# Altium schematic symbol library PBL - Resistors.SCHLIB: 161 symbols (part 2 of 3)
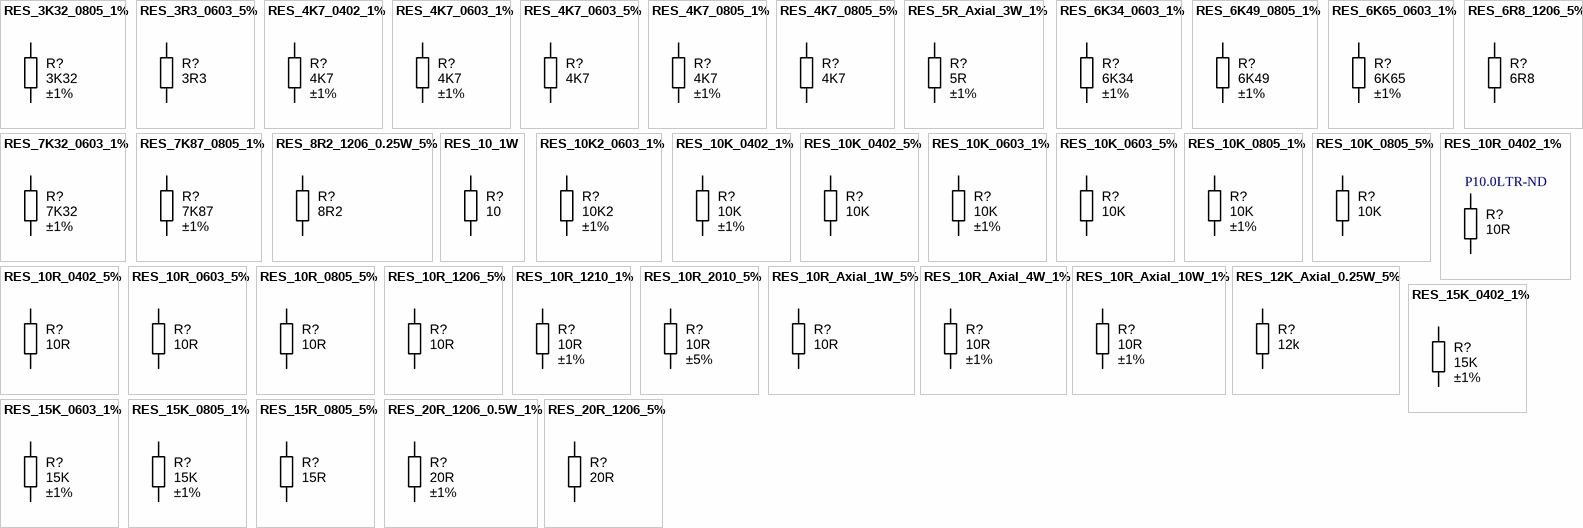
[diagram p5: symbols RES_3K32_0805_1% to RES_20R_1206_5%]

## RES_10R_1210_1%
designator R?, comment value 10R  Tolerance: ±1%  (hidden comment: Thick Film)
Resistor SMD chip 10 Ohm 0.5W 1% 1210; Manufacturer 1: Panasonic - ECG; Manufacturer Part Number 1: ERJ-14NF10R0U; Ratings: 1/2W; SCDType: spec; Package / Case: 1210 (3225 Metric); Supplier 1: Digi-Key; Supplier Part Number 1: P10.0AACT-ND; ComponentLink1URL: http://industrial.panasonic.com/www-cgi/jvcr13pz.cgi?E+PZ+3+AOA0002+ERJ14NF10R0U+7+WW; ComponentLink1Description: http://industrial.panasonic.com/www-cgi/jvcr13pz.cgi?E+PZ+3+AOA0002+ERJ14NF10R0U+7+WW
footprint RESC3225X70N (Chip Resistor, Body 3.2x2.5mm, 1210, IPC Medium Density)
pins: 1, 2

## RES_10R_2010_5%
designator R?, comment value 10R  Tolerance: ±5%  (hidden comment: Thick Film)
Resistor SMD chip 10 Ohm 0.25W 5% 2010; Manufacturer 1: Vishay/Dale; Manufacturer Part Number 1: CRCW120610R0JNEA; Ratings: 1/4W; SCDType: undef; Package / Case: 2010; Supplier 1: Digi-Key; Supplier Part Number 1: 541-10ECT-ND; ComponentLink1URL: http://www.vishay.com/doc?20035; ComponentLink1Description: http://www.vishay.com/doc?20035
footprint RESC5025X70N (Chip Resistor, Body 5.0x2.5mm, 2010, IPC Medium Density)
pins: 1, 2

## RES_10R_Axial_1W_5%
designator R?, comment value 10R  (hidden comment: Metal Film)
Resistor THD 10 Ohm 1W 5% Metal Film; Manufacturer 1: Vishay/BC Components; Manufacturer Part Number 1: PR01000101009JR500; SCDType: spec; Tolerance: ±5%; Package / Case: 2.5x8.0mm DxL; Ratings: 1W; Supplier 1: Digi-Key; Supplier Part Number 1: PPC10W-1CT-ND
footprint AXIAL-0.6 (Axial Device, Thru-Hole; 2 Leads; 0.6 in Pin Spacing)
pins: 1, 2

## RES_10R_Axial_4W_1%
designator R?, comment value 10R  Tolerance: ±1%  (hidden comment: Wirewound)
Resistor THD 10 Ohm 4W 1% Wirewound; Manufacturer Part Number 1: MRA-0510R00FE12; Manufacturer 1: Vishay Dale; Ratings: 4W; 30ppm; Parameter Name: 0.167" Dia x 0.562" L (4.24mm x 14.27mm); SCDType: undef; Package / Case: 4.24x14.27mm DxL; Material: Wirewound; Size / Dimension: 0.187" Dia x 0.622" L (4.75mm x 15.80mm); ComponentLink1URL: http://media.digikey.com/pdf/Data%20Sheets/Vishay%20Dale%20PDFs/MRA_Series.pdf; ComponentLink1Description: MRA Series datasheet; Supplier 1: Digi-Key; Supplier Part Number 1: MRA05-10-ND; Features: Non-Inductive, Non-Magnetic
footprint RESTH_AXIAL_MRA-05 (MRA-05 Axial Resistor Thru-Hole; 2 Leads)
pins: 1, 2

## RES_10R_Axial_10W_1%
designator R?, comment value 10R  Tolerance: ±1%  (hidden comment: Wirewound)
Resistor THD 10 Ohm 10W 1% Wirewound; Manufacturer 1: Vishay/Dale; Manufacturer Part Number 1: RS01010R00FE73; SCDType: spec; Package / Case: 9.53x47.50mm DxL; Ratings: 10W; Supplier 1: Digi-Key; Supplier Part Number 1: RSD-10RCT-ND; Material: Wirewound; Size / Dimension: 0.375" Dia x 1.870" L (9.53mm x 47.50mm); ComponentLink1URL: http://www.vishay.com/doc?30204; ComponentLink1Description: http://www.vishay.com/doc?30204
footprint RESTH_AXIAL_RS010 (Axial Resistor Thru-Hole; 2 Leads)
pins: 1, 2

## RES_12K_Axial_0.25W_5%
designator R?, comment value 12k  (hidden comment: Carbon Film)
Resistor THD Axial 12k Ohm 0.25W 5% Carbon Film; Manufacturer 1: Yageo; Manufacturer Part Number 1: CFR-25JB-12K; Ratings: 1/4W; SCDType: spec; Tolerance: ±5%; Package / Case: Axial; Supplier 1: Digi-Key; Supplier Part Number 1: 12KQBK-ND
footprint RESTH_AXIAL-0.4
pins: 1, 2

## RES_15K_0402_1%
designator R?, comment value 15K  Tolerance: ±1%  (hidden comment: Thick Film)
Resistor SMD chip 15k Ohm 0.063W 1% 0402; Manufacturer 1: Vishay Dale; Manufacturer Part Number 1: CRCW040215K0FKED; Ratings: 1/16 W; SCDType: spec; Package / Case: 0402 (1005 Metric); Manufacturer 2: Yageo; Manufacturer Part Number 2: RC0402FR-0715KL; Supplier 1: Digi-Key; Supplier Part Number 1: 541-15.0KLCT-ND; ComponentLink1URL: http://www.vishay.com/doc?20035; ComponentLink1Description: http://www.vishay.com/doc?20035; Supplier 2: Digi-Key; Supplier Part Number 2: 311-15.0KLRCT-ND; ComponentLink2URL: http://www.yageo.com/documents/recent/PYu-RC0402_51_RoHS_L_6.pdf; ComponentLink2Description: http://www.yageo.com/documents/recent/PYu-RC0402_51_RoHS_L_6.pdf
footprint RESC1005X40N (Chip Resistor, Body 1.0x0.5mm, EIA 0402, IPC Medium Density)
pins: 1, 2

## RES_15K_0603_1%
designator R?, comment value 15K  Tolerance: ±1%  (hidden comment: Thick Film)
Resistor SMD chip 15k Ohm 0.1W 1% 0603; Manufacturer 1: Rohm Semiconductor; Manufacturer Part Number 1: MCR03ERTF1502; Ratings: 1/10 W; SCDType: spec; Package / Case: 0603 (1608 metric); Material: Thick Film; Supplier 1: Digi-Key; Supplier Part Number 1: RHM15.0KCFCT-ND; RoHS 1: RoHS Compliant; ComponentLink1URL: http://rohmfs.rohm.com/en/products/databook/datasheet/passive/resistor/chip_resistor/mcr_g.pdf; ComponentLink1Description: http://rohmfs.rohm.com/en/products/databook/datasheet/passive/resistor/chip_resistor/mcr_g.pdf; Supplier 2: Digi-Key; Supplier Part Number 2: 311-15.0KHRCT-ND; Manufacturer 2: Yageo; Manufacturer Part Number 2: RC0603FR-0715KL; RoHS 2: RoHS Compliant; ComponentLink2URL: http://www.yageo.com/documents/recent/PYu-RC0603_51_RoHS_L_4.pdf; ComponentLink2Description: http://www.yageo.com/documents/recent/PYu-RC0603_51_RoHS_L_4.pdf; Supplier 3: Digi-Key; Supplier Part Number 3: P15.0KHCT-ND; Manufacturer 3: Panasonic Electronic Components; Manufacturer Part Number 3: ERJ-3EKF1502V; RoHS 3: RoHS Compliant; ComponentLink3URL: http://industrial.panasonic.com/www-cgi/jvcr13pz.cgi?E+PZ+3+AOA0002+ERJ3EKF1502V+7+WW; ComponentLink3Description: http://industrial.panasonic.com/www-cgi/jvcr13pz.cgi?E+PZ+3+AOA0002+ERJ3EKF1502V+7+WW; Supplier 4: Digi-Key; Supplier Part Number 4: RMCF0603FT15K0CT-ND; Manufacturer 4: Stackpole Electronics Inc; Manufacturer Part Number 4: RMCF0603FT15K0; RoHS 4: RoHS Compliant; ComponentLink4URL: http://www.seielect.com/Catalog/SEI-RMCF_RMCP.pdf; ComponentLink4Description: http://www.seielect.com/Catalog/SEI-RMCF_RMCP.pdf; Supplier 5: Digi-Key; Supplier Part Number 5: 541-15.0KSCT-ND; Manufacturer 5: Vishay Dale; Manufacturer Part Number 5: CRCW060315K0FKEAHP; RoHS 5: RoHS Compliant; ComponentLink5URL: http://www.vishay.com/docs/20043/crcwhpe3.pdf; ComponentLink5Description: http://www.vishay.com/docs/20043/crcwhpe3.pdf
footprint RESC1608X55N (Chip Resistor, Body 1.6x0.8mm, 0603, IPC Medium Density)
pins: 1, 2

## RES_15K_0805_1%
designator R?, comment value 15K  Tolerance: ±1%  (hidden comment: Thick Film)
Resistor SMD chip 15k Ohm 0.125W 1% 0805; Manufacturer 1: Vishay/Dale; Manufacturer Part Number 1: CRCW080515K0FKEA; Ratings: 1/8W; SCDType: spec; Package / Case: 0805 (2012 metric); Supplier 1: Digi-Key; Supplier Part Number 1: 541-15.0KCCT-ND
footprint RESC2012X70N (Chip Resistor, Body 2.0x1.2mm, 0805, IPC Medium Density)
pins: 1, 2

## RES_15R_0805_5%
designator R?, comment value 15R  (hidden comment: Thick Film)
Resistor SMD chip 15 Ohm 0.125W 5% 0805; Manufacturer 1: Yageo; Manufacturer Part Number 1: RC0805JR-0715RL; Ratings: 1/8W; SCDType: spec; Tolerance: ±5%; Package / Case: 0805 (2012 metric); Supplier 1: Digi-Key; Supplier Part Number 1: 311-15ARCT-ND; RoHS 1: RoHS Compliant; ComponentLink1URL: http://media.digikey.com/pdf/Data%20Sheets/Yageo%20PDFs/RC0805%20Pb%20Free.pdf; ComponentLink1Description: http://media.digikey.com/pdf/Data%20Sheets/Yageo%20PDFs/RC0805%20Pb%20Free.pdf; Supplier 2: Digi-Key; Supplier Part Number 2: P15ACT-ND; Manufacturer 2: Panasonic Electronic Components; Manufacturer Part Number 2: ERJ-6GEYJ150V; RoHS 2: RoHS Compliant; ComponentLink2URL: http://industrial.panasonic.com/www-cgi/jvcr13pz.cgi?E+PZ+3+AOA0001+ERJ6GEYJ150V+7+WW; ComponentLink2Description: http://industrial.panasonic.com/www-cgi/jvcr13pz.cgi?E+PZ+3+AOA0001+ERJ6GEYJ150V+7+WW; Supplier 3: Digi-Key; Supplier Part Number 3: RMCF0805JT15R0CT-ND; Manufacturer 3: Stackpole Electronics Inc; Manufacturer Part Number 3: RMCF0805JT15R0; RoHS 3: RoHS Compliant; ComponentLink3URL: http://www.seielect.com/Catalog/SEI-RMCF_RMCP.pdf; ComponentLink3Description: http://www.seielect.com/Catalog/SEI-RMCF_RMCP.pdf; Supplier 4: Digi-Key; Supplier Part Number 4: 541-15ACT-ND; Manufacturer 4: Vishay Dale; Manufacturer Part Number 4: CRCW080515R0JNEA; RoHS 4: RoHS Compliant; ComponentLink4URL: http://www.vishay.com/doc?20035; ComponentLink4Description: http://www.vishay.com/doc?20035
footprint RESC2012X70N (Chip Resistor, Body 2.0x1.2mm, 0805, IPC Medium Density)
pins: 1, 2

## RES_20R_1206_0.5W_1%
designator R?, comment value 20R  Tolerance: ±1%  (hidden comment: Thick Film)
Resistor SMD chip 20 Ohm 0.5W 1% 1206; Manufacturer 1: Stackpole Electronics Inc; Manufacturer Part Number 1: RNCP1206FTD20R0; Ratings: 1/2W; SCDType: undef; Package / Case: 1206 (3216 Metric); Supplier 1: Digi-Key; Supplier Part Number 1: RNCP1206FTD20R0CT-ND; Features: Anti-Sulfur
footprint RESC3216X70N (Chip Resistor, Body 3.2x1.6mm, 1206, IPC Medium Density)
pins: 1, 2

## RES_20R_1206_5%
designator R?, comment value 20R  (hidden comment: Thick Film)
Resistor SMD chip 20 Ohm 0.25W 5% 1206; Manufacturer 1: Yageo; Manufacturer Part Number 1: RC1206JR-0720RL; Ratings: 1/4W; SCDType: spec; Package / Case: 1206 (3216 metric); Tolerance: ±5%; Supplier 1: Digi-Key; Supplier Part Number 1: 311-20ERCT-ND
footprint RESC3216X70N (Chip Resistor, Body 3.2x1.6mm, 1206, IPC Medium Density)
pins: 1, 2

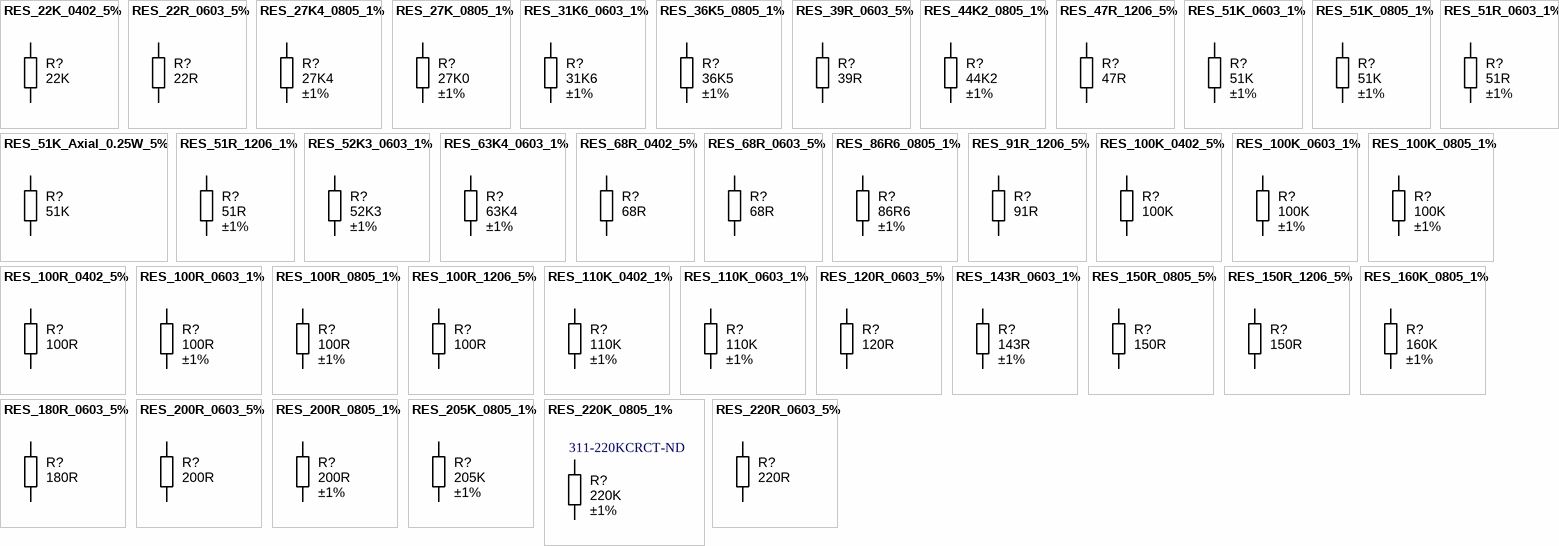
[diagram p2: symbols RES_22K_0402_5% to RES_220R_0603_5%]

## RES_22K_0402_5%
designator R?, comment value 22K  (hidden comment: Thick Film)
Resistor SMD chip 22k Ohm 0.063W 5% 0402; Manufacturer 1: Yageo; Manufacturer Part Number 1: RC0402JR-0722KL; Ratings: 1/16 W; SCDType: spec; Package / Case: 0402 (1005 Metric); Tolerance: ±5%; Supplier 1: Digi-Key; Supplier Part Number 1: 311-22KJRCT-ND; RoHS 1: RoHS Compliant; ComponentLink1URL: http://www.yageo.com/documents/recent/PYu-RC0402_51_RoHS_L_6.pdf; ComponentLink1Description: http://www.yageo.com/documents/recent/PYu-RC0402_51_RoHS_L_6.pdf; Supplier 2: Digi-Key; Supplier Part Number 2: RHM22KCECT-ND; Manufacturer 2: Rohm Semiconductor; Manufacturer Part Number 2: MCR01MRTJ223; RoHS 2: RoHS Compliant; ComponentLink2URL: http://rohmfs.rohm.com/en/products/databook/datasheet/passive/resistor/chip_resistor/mcr_g.pdf; ComponentLink2Description: http://rohmfs.rohm.com/en/products/databook/datasheet/passive/resistor/chip_resistor/mcr_g.pdf; Supplier 3: Digi-Key; Supplier Part Number 3: 541-22KJCT-ND; Manufacturer 3: Vishay Dale; Manufacturer Part Number 3: CRCW040222K0JNED; RoHS 3: RoHS Compliant; ComponentLink3URL: http://www.vishay.com/doc?20035; ComponentLink3Description: http://www.vishay.com/doc?20035; Supplier 4: Digi-Key; Supplier Part Number 4: P22KJCT-ND; Manufacturer 4: Panasonic Electronic Components; Manufacturer Part Number 4: ERJ-2GEJ223X; RoHS 4: RoHS Compliant; ComponentLink4URL: http://industrial.panasonic.com/www-cgi/jvcr13pz.cgi?E+PZ+3+AOA0001+ERJ2GEJ223X+7+WW; ComponentLink4Description: http://industrial.panasonic.com/www-cgi/jvcr13pz.cgi?E+PZ+3+AOA0001+ERJ2GEJ223X+7+WW
footprint RESC1005X40N (Chip Resistor, Body 1.0x0.5mm, EIA 0402, IPC Medium Density)
pins: 1, 2

## RES_22R_0603_5%
designator R?, comment value 22R  (hidden comment: Thick Film)
Resistor SMD chip 22 Ohm 0.1W 5% 0603; Manufacturer 1: Yageo; Manufacturer Part Number 1: RC0603JR-0722RL; Ratings: 1/10W; SCDType: spec; Temperature Coefficient: ±100ppm/°C; Tolerance: ±5%; Package / Case: 0603 (1608 metric); Case: 0603 (1608 metric); Supplier 1: Digi-Key; Supplier Part Number 1: 311-22GRDKR-ND; RoHS 1: RoHS Compliant; ComponentLink1URL: http://www.yageo.com/documents/recent/PYu-RC0603_51_RoHS_L_4.pdf; ComponentLink1Description: http://www.yageo.com/documents/recent/PYu-RC0603_51_RoHS_L_4.pdf; Supplier 2: Digi-Key; Supplier Part Number 2: 1276-5022-6-ND; Manufacturer 2: Samsung Electro-Mechanics America, Inc; Manufacturer Part Number 2: RC1608J220CS; RoHS 2: RoHS Compliant; ComponentLink2URL: http://www.samsungsem.com/servlet/FileDownload?filename=productcatalog/pdf/Chip_Resistor.pdf; ComponentLink2Description: http://www.samsungsem.com/servlet/FileDownload?filename=productcatalog/pdf/Chip_Resistor.pdf; Supplier 3: Digi-Key; Supplier Part Number 3: RMCF0603JT22R0DKR-ND; Manufacturer 3: Stackpole Electronics Inc; Manufacturer Part Number 3: RMCF0603JT22R0; RoHS 3: RoHS Compliant; ComponentLink3URL: http://www.seielect.com/Catalog/SEI-RMCF_RMCP.pdf; ComponentLink3Description: http://www.seielect.com/Catalog/SEI-RMCF_RMCP.pdf; Supplier 4: Digi-Key; Supplier Part Number 4: RHM22CGDKR-ND; Manufacturer 4: Rohm Semiconductor; Manufacturer Part Number 4: MCR03ERTJ220; RoHS 4: RoHS Compliant; ComponentLink4URL: http://rohmfs.rohm.com/en/products/databook/datasheet/passive/resistor/chip_resistor/mcr_g.pdf; ComponentLink4Description: http://rohmfs.rohm.com/en/products/databook/datasheet/passive/resistor/chip_resistor/mcr_g.pdf; Supplier 5: Digi-Key; Supplier Part Number 5: P22GDKR-ND; Manufacturer 5: Panasonic Electronic Components; Manufacturer Part Number 5: ERJ-3GEYJ220V; RoHS 5: RoHS Compliant; ComponentLink5URL: http://industrial.panasonic.com/www-cgi/jvcr13pz.cgi?E+PZ+3+AOA0001+ERJ3GEYJ220V+7+WW; ComponentLink5Description: http://industrial.panasonic.com/www-cgi/jvcr13pz.cgi?E+PZ+3+AOA0001+ERJ3GEYJ220V+7+WW
footprint RESC1608X55N (Chip Resistor, Body 1.6x0.8mm, 0603, IPC Medium Density)
pins: 1, 2

## RES_27K4_0805_1%
designator R?, comment value 27K4  Tolerance: ±1%  (hidden comment: Thick Film)
Resistor SMD chip 27.4k Ohm 0.125W 1% 0805; Manufacturer 1: Vishay/Dale; Manufacturer Part Number 1: CRCW080527K4FKEA; Ratings: 1/8W; SCDType: spec; Package / Case: 0805 (2012 metric); Supplier 1: Digi-Key; Supplier Part Number 1: 541-27.4KCCT-ND
footprint RESC2012X70N (Chip Resistor, Body 2.0x1.2mm, 0805, IPC Medium Density)
pins: 1, 2

## RES_27K_0805_1%
designator R?, comment value 27K0  Tolerance: ±1%  (hidden comment: Thick Film)
Resistor SMD chip 27.0k Ohm 0.125W 1% 0805; Manufacturer 1: Vishay/Dale; Manufacturer Part Number 1: CRCW080527K0FKEA; Ratings: 1/8W; SCDType: spec; Package / Case: 0805 (2012 metric); Supplier 1: Digi-Key; Supplier Part Number 1: 541-27.0KCCT-ND
footprint RESC2012X70N (Chip Resistor, Body 2.0x1.2mm, 0805, IPC Medium Density)
pins: 1, 2

## RES_31K6_0603_1%
designator R?, comment value 31K6  Tolerance: ±1%  (hidden comment: Thick Film)
Resistor SMD chip 31.6k Ohm 0.1W 1% 0603; Manufacturer 1: Yageo; Manufacturer Part Number 1: RC0603FR-0731K6L; Ratings: 1/10W; SCDType: spec; Package / Case: 0603 (1608 Metric); Supplier 1: Digi-Key; Supplier Part Number 1: 311-31.6KHRCT-ND
footprint RESC1608X55N (Chip Resistor, Body 1.6x0.8mm, 0603, IPC Medium Density)
pins: 1, 2

## RES_36K5_0805_1%
designator R?, comment value 36K5  Tolerance: ±1%  (hidden comment: Thick Film)
Resistor SMD chip 36.5k Ohm 0.125W 1% 0805; Manufacturer 1: Vishay/Dale; Manufacturer Part Number 1: CRCW080536K5FKEA; Ratings: 1/8W; SCDType: spec; Package / Case: 0805 (2012 metric); Supplier 1: Digi-Key; Supplier Part Number 1: 541-36.5KCCT-ND
footprint RESC2012X70N (Chip Resistor, Body 2.0x1.2mm, 0805, IPC Medium Density)
pins: 1, 2

## RES_39R_0603_5%
designator R?, comment value 39R  (hidden comment: Thick Film)
Resistor SMD chip 39 Ohm 0.1W 5% 0603; Manufacturer 1: Vishay Dale; Manufacturer Part Number 1: CRCW060339R0JNEA; Ratings: 1/10 W; SCDType: spec; Package / Case: 0603 (1608 metric); Tolerance: ±5%; Manufacturer 2: Yageo; Manufacturer Part Number 2: RC0603JR-0739RL; Supplier 1: Digi-Key; Supplier Part Number 1: 541-39GCT-ND; ComponentLink1URL: http://www.vishay.com/doc?20035; ComponentLink1Description: http://www.vishay.com/doc?20035; Supplier 2: Digi-Key; Supplier Part Number 2: 311-39GRCT-ND; ComponentLink2URL: http://www.yageo.com/documents/recent/PYu-RC0603_51_RoHS_L_4.pdf; ComponentLink2Description: http://www.yageo.com/documents/recent/PYu-RC0603_51_RoHS_L_4.pdf
footprint RESC1608X55N (Chip Resistor, Body 1.6x0.8mm, 0603, IPC Medium Density)
pins: 1, 2

## RES_44K2_0805_1%
designator R?, comment value 44K2  Tolerance: ±1%  (hidden comment: Thick Film)
Resistor SMD chip 44.2k Ohm 0.125W 1% 0805; Manufacturer 1: Vishay/Dale; Manufacturer Part Number 1: CRCW080544K2FKEA; Ratings: 1/8W; SCDType: spec; Package / Case: 0805 (2012 metric); Supplier 1: Digi-Key; Supplier Part Number 1: 541-44.2KCCT-ND
footprint RESC2012X70N (Chip Resistor, Body 2.0x1.2mm, 0805, IPC Medium Density)
pins: 1, 2

## RES_47R_1206_5%
designator R?, comment value 47R  (hidden comment: Thick Film)
Resistor SMD chip 47 Ohm 0.25W 5% 1206; Manufacturer 1: Yageo; Manufacturer Part Number 1: RC1206JR-0747RL; Ratings: 1/4W; Voltage Rating: 200 Volts; SCDType: spec; Package / Case: 1206 (3216 metric); Tolerance: ±5%; Supplier 1: Mouser; Supplier Part Number 1: 603-RC1206JR-0747RL; ComponentLink1URL: http://www.yageo.com/documents/recent/PYu-RC1206_51_RoHS_L_4.pdf; ComponentLink1Description: http://www.yageo.com/documents/recent/PYu-RC1206_51_RoHS_L_4.pdf
footprint RESC3216X70N (Chip Resistor, Body 3.2x1.6mm, 1206, IPC Medium Density)
pins: 1, 2

## RES_51K_0603_1%
designator R?, comment value 51K  Tolerance: ±1%  (hidden comment: Thick Film)
Resistor SMD chip 51k Ohm 0.1W 1% 0603; Manufacturer 1: Yageo; Manufacturer Part Number 1: RC0603FR-0751KL; Ratings: 1/10W; SCDType: spec; Package / Case: 0603 (1608 Metric); Supplier 1: Digi-Key; Supplier Part Number 1: 311-51.0KHRCT-ND
footprint RESC1608X55N (Chip Resistor, Body 1.6x0.8mm, 0603, IPC Medium Density)
pins: 1, 2

## RES_51K_0805_1%
designator R?, comment value 51K  Tolerance: ±1%  (hidden comment: Thick Film)
Resistor SMD chip 51k Ohm 0.125W 1% 0805; Manufacturer 1: Yageo; Manufacturer Part Number 1: RC0805FR-0751KL; Ratings: 1/8W; SCDType: spec; Package / Case: 0805 (2012 Metric); Supplier 1: Digi-Key; Supplier Part Number 1: 311-51.0KCRCT-ND
footprint RESC2012X70N (Chip Resistor, Body 2.0x1.2mm, 0805, IPC Medium Density)
pins: 1, 2

## RES_51K_Axial_0.25W_5%
designator R?, comment value 51K  (hidden comment: Carbon Film)
Resistor THD Axial 51k Ohm 0.25W 5% Carbon Film; Manufacturer 1: Yageo; Manufacturer Part Number 1: CFR-25JB-51K; Ratings: 1/4W; SCDType: spec; Tolerance: ±5%; Package / Case: Axial; Supplier 1: Digi-Key; Supplier Part Number 1: 51KQBK-ND
footprint RESTH_AXIAL-0.4
pins: 1, 2

## RES_51R_0603_1%
designator R?, comment value 51R  Tolerance: ±1%  (hidden comment: Thick Film)
Resistor SMD chip 51 Ohm 0.1W 1% 0603; Manufacturer 1: Yageo; Manufacturer Part Number 1: RC0603FR-0751RL; Ratings: 1/10 W; SCDType: spec; Package / Case: 0603 (1608 metric); Material: Thick Film; Supplier 1: Digi-Key; Supplier Part Number 1: 311-51.0HRCT-ND
footprint RESC1608X55N (Chip Resistor, Body 1.6x0.8mm, 0603, IPC Medium Density)
pins: 1, 2

## RES_51R_1206_1%
designator R?, comment value 51R  Tolerance: ±1%  (hidden comment: Thick Film)
Resistor SMD chip 51 Ohm 0.25W 1% 1206; Manufacturer 1: Vishay/Dale; Manufacturer Part Number 1: CRCW120651R0JNEA; Ratings: 1/4W; SCDType: spec; Package / Case: 1206 (3216 metric); Supplier 1: Digi-Key; Supplier Part Number 1: 541-51ECT-ND
footprint RESC3216X70N (Chip Resistor, Body 3.2x1.6mm, 1206, IPC Medium Density)
pins: 1, 2

## RES_52K3_0603_1%
designator R?, comment value 52K3  Tolerance: ±1%  (hidden comment: Thick Film)
Resistor SMD chip 52.3K Ohm 0.1W 1% 0603; Manufacturer 1: Yageo; Manufacturer Part Number 1: RC0603FR-0752K3L; Ratings: 1/10W; Parameter Name: ±100ppm/°C; SCDType: undef; Package / Case: 0603 (1608 Metric); ComponentLink1URL: http://www.yageo.com/documents/recent/PYu-RC0603_51_RoHS_L_4.pdf; ComponentLink1Description: http://www.yageo.com/documents/recent/PYu-RC0603_51_RoHS_L_4.pdf; Supplier 1: Digi-Key; Supplier Part Number 1: 311-52.3KHRCT-ND
footprint RESC1608X55N (Chip Resistor, Body 1.6x0.8mm, 0603, IPC Medium Density)
pins: 1, 2

## RES_63K4_0603_1%
designator R?, comment value 63K4  Tolerance: ±1%  (hidden comment: Thick Film)
Resistor SMD chip 63.4K Ohm 0.1W 1% 0603; Manufacturer 1: Yageo; Manufacturer Part Number 1: RC0603FR-0763K4L; Ratings: 1/10W; SCDType: spec; Package / Case: 0603 (1608 Metric); Supplier 1: Digi-Key; Supplier Part Number 1: 311-63.4KHRCT-ND; ComponentLink1URL: http://www.yageo.com/documents/recent/PYu-RC0603_51_RoHS_L_4.pdf; ComponentLink1Description: http://www.yageo.com/documents/recent/PYu-RC0603_51_RoHS_L_4.pdf
footprint RESC1608X55N (Chip Resistor, Body 1.6x0.8mm, 0603, IPC Medium Density)
pins: 1, 2

## RES_68R_0402_5%
designator R?, comment value 68R  (hidden comment: Thick Film)
Resistor SMD chip 68 Ohm 0.063W 5% 0402; Manufacturer 1: Yageo; Manufacturer Part Number 1: RC0402JR-0768RL; Ratings: 1/16 W; SCDType: spec; Package / Case: 0402 (1005 Metric); Tolerance: ±5%; Supplier 1: Digi-Key; Supplier Part Number 1: 311-68JRCT-ND; RoHS 1: RoHS Compliant; ComponentLink1URL: http://www.yageo.com/documents/recent/PYu-RC0402_51_RoHS_L_6.pdf; ComponentLink1Description: http://www.yageo.com/documents/recent/PYu-RC0402_51_RoHS_L_6.pdf; Supplier 2: Digi-Key; Supplier Part Number 2: 1276-4348-1-ND; Manufacturer 2: Samsung Electro-Mechanics America, Inc; Manufacturer Part Number 2: RC1005J680CS; RoHS 2: RoHS Compliant; ComponentLink2URL: http://www.samsungsem.com/servlet/FileDownload?filename=productcatalog/pdf/Chip_Resistor.pdf; ComponentLink2Description: http://www.samsungsem.com/servlet/FileDownload?filename=productcatalog/pdf/Chip_Resistor.pdf; Supplier 3: Digi-Key; Supplier Part Number 3: RMCF0402JT68R0CT-ND; Manufacturer 3: Stackpole Electronics Inc; Manufacturer Part Number 3: RMCF0402JT68R0; RoHS 3: RoHS Compliant; ComponentLink3URL: http://www.seielect.com/Catalog/SEI-RMCF_RMCP.pdf; ComponentLink3Description: http://www.seielect.com/Catalog/SEI-RMCF_RMCP.pdf; Supplier 4: Digi-Key; Supplier Part Number 4: RHM68CECT-ND; Manufacturer 4: Rohm Semiconductor; Manufacturer Part Number 4: MCR01MRTJ680; RoHS 4: RoHS Compliant; ComponentLink4URL: http://rohmfs.rohm.com/en/products/databook/datasheet/passive/resistor/chip_resistor/mcr_g.pdf; ComponentLink4Description: http://rohmfs.rohm.com/en/products/databook/datasheet/passive/resistor/chip_resistor/mcr_g.pdf
footprint RESC1005X40N (Chip Resistor, Body 1.0x0.5mm, EIA 0402, IPC Medium Density)
pins: 1, 2

## RES_68R_0603_5%
designator R?, comment value 68R  (hidden comment: Thick Film)
Resistor SMD chip 68 Ohm 0.1W 5% 0603; Manufacturer 1: Yageo; Manufacturer Part Number 1: RC0603JR-0768RL; Ratings: 1/10 W; SCDType: spec; Package / Case: 0603 (1608 metric); Tolerance: ±5%; Material: Thick Film; Supplier 1: Digi-Key; Supplier Part Number 1: 311-68GRCT-ND
footprint RESC1608X55N (Chip Resistor, Body 1.6x0.8mm, 0603, IPC Medium Density)
pins: 1, 2

## RES_86R6_0805_1%
designator R?, comment value 86R6  Tolerance: ±1%  (hidden comment: Thick Film)
Resistor SMD chip 86.6 Ohm 0.125W 1% 0805; Manufacturer: Vishay/Dale; Manufacturer Part Number: CRCW080586R6FKEA; Ratings: 1/8W; SCDType: spec; Package / Case: 0805 (2012 metric); Supplier 1: Digi-Key; Supplier Part Number 1: 541-86.6CCT-ND
footprint RESC2012X70N (Chip Resistor, Body 2.0x1.2mm, 0805, IPC Medium Density)
pins: 1, 2

## RES_91R_1206_5%
designator R?, comment value 91R  (hidden comment: Thin Film)
Resistor SMD chip 91 Ohm 0.25W 5% 1206; Manufacturer 1: Yageo; Manufacturer Part Number 1: RC1206JR-0791RL; Ratings: 1/4 W; SCDType: spec; Package / Case: 1206 (3216 Metric); Tolerance: ±5%; Material: Thin Film; Supplier 1: Digi-Key; Supplier Part Number 1: 311-91ERCT-ND; ComponentLink1URL: http://www.yageo.com/documents/recent/PYu-RC1206_51_RoHS_L_4.pdf; ComponentLink1Description: http://www.yageo.com/documents/recent/PYu-RC1206_51_RoHS_L_4.pdf
footprint RESC3216X70N (Chip Resistor, Body 3.2x1.6mm, 1206, IPC Medium Density)
pins: 1, 2

## RES_100K_0402_5%
designator R?, comment value 100K  (hidden comment: Thick Film)
Resistor SMD chip 100k Ohm 0.063W 5% 0402; Manufacturer 1: Vishay Dale; Manufacturer Part Number 1: CRCW0402100KJNED; Ratings: 1/16 W; SCDType: undef; Package / Case: 0402 (1005 Metric); Tolerance: ±5%; ComponentLink2URL: http://www.yageo.com/documents/recent/PYu-RC0402_51_RoHS_L_6.pdf; ComponentLink2Description: http://www.yageo.com/documents/recent/PYu-RC0402_51_RoHS_L_6.pdf; Supplier 1: Digi-Key; Supplier Part Number 1: 541-100KJCT-ND; ComponentLink1URL: http://www.vishay.com/doc?20035; ComponentLink1Description: http://www.vishay.com/doc?20035; Supplier 2: Digi-Key; Supplier Part Number 2: 311-100KJRCT-ND; Manufacturer 2: Yageo; Manufacturer Part Number 2: RC0402JR-07100KL
footprint RESC1005X40N (Chip Resistor, Body 1.0x0.5mm, EIA 0402, IPC Medium Density)
pins: 1, 2

## RES_100K_0603_1%
designator R?, comment value 100K  Tolerance: ±1%  (hidden comment: Thick Film)
Resistor SMD chip 100k Ohm 0.1W 1% 0603; Manufacturer 1: Vishay/Dale; Manufacturer Part Number 1: CRCW0603100KFKEA; Ratings: 1/10W; SCDType: spec; Package / Case: 0603 (2012 metric); Supplier 1: Digi-Key; Supplier Part Number 1: 541-100KHCT-ND
footprint RESC1608X55N (Chip Resistor, Body 1.6x0.8mm, 0603, IPC Medium Density)
pins: 1, 2

## RES_100K_0805_1%
designator R?, comment value 100K  Tolerance: ±1%  (hidden comment: Thick Film)
Resistor SMD chip 100k Ohm 0.125W 1% 0805; Manufacturer 1: Vishay/Dale; Manufacturer Part Number 1: CRCW0805100KFKEA; Ratings: 1/8W; SCDType: spec; Package / Case: 0805 (2012 metric); Supplier 1: Digi-Key; Supplier Part Number 1: 541-100KCCT-ND
footprint RESC2012X70N (Chip Resistor, Body 2.0x1.2mm, 0805, IPC Medium Density)
pins: 1, 2

## RES_100R_0402_5%
designator R?, comment value 100R  (hidden comment: Thick Film)
Resistor SMD chip 100 Ohm 0.063W 5% 0402; Manufacturer 1: Yageo; Manufacturer Part Number 1: RC0402JR-07100RL; Ratings: 1/16 W; SCDType: spec; Package / Case: 0402 (1005 Metric); Tolerance: ±5%; Supplier 1: Digi-Key; Supplier Part Number 1: 311-100JRCT-ND; RoHS 1: RoHS Compliant; ComponentLink1URL: http://www.yageo.com/documents/recent/PYu-RC0402_51_RoHS_L_6.pdf; ComponentLink1Description: http://www.yageo.com/documents/recent/PYu-RC0402_51_RoHS_L_6.pdf; Supplier 2: Digi-Key; Supplier Part Number 2: RMCF0402JT100RCT-ND; Manufacturer 2: Stackpole Electronics Inc; Manufacturer Part Number 2: RMCF0402JT100R; RoHS 2: RoHS Compliant; ComponentLink2URL: http://www.seielect.com/Catalog/SEI-RMCF_RMCP.pdf; ComponentLink2Description: http://www.seielect.com/Catalog/SEI-RMCF_RMCP.pdf; Supplier 3: Digi-Key; Supplier Part Number 3: RHM100CECT-ND; Manufacturer 3: Rohm Semiconductor; Manufacturer Part Number 3: MCR01MRTJ101; RoHS 3: RoHS Compliant; ComponentLink3URL: http://rohmfs.rohm.com/en/products/databook/datasheet/passive/resistor/chip_resistor/mcr_g.pdf; ComponentLink3Description: http://rohmfs.rohm.com/en/products/databook/datasheet/passive/resistor/chip_resistor/mcr_g.pdf; Supplier 4: Digi-Key; Supplier Part Number 4: 541-100JCT-ND; Manufacturer 4: Vishay Dale; Manufacturer Part Number 4: CRCW0402100RJNED; RoHS 4: RoHS Compliant; ComponentLink4URL: http://www.vishay.com/doc?20035; ComponentLink4Description: http://www.vishay.com/doc?20035; Supplier 5: Digi-Key; Supplier Part Number 5: 1276-4352-1-ND; Manufacturer 5: Samsung Electro-Mechanics America, Inc; Manufacturer Part Number 5: RC1005J101CS; RoHS 5: RoHS Compliant; ComponentLink5URL: http://www.samsungsem.com/servlet/FileDownload?filename=productcatalog/pdf/Chip_Resistor.pdf; ComponentLink5Description: http://www.samsungsem.com/servlet/FileDownload?filename=productcatalog/pdf/Chip_Resistor.pdf
footprint RESC1005X40N (Chip Resistor, Body 1.0x0.5mm, EIA 0402, IPC Medium Density)
pins: 1, 2

## RES_100R_0603_1%
designator R?, comment value 100R  Tolerance: ±1%  (hidden comment: Thick Film)
Resistor SMD chip 100 Ohm 0.1W 1% 0603; Manufacturer 1: Yageo; Manufacturer Part Number 1: RC0603FR-07100RL; Ratings: 1/10 W; SCDType: spec; Package / Case: 0603 (1608 Metric); Material: Thick Film; Supplier 1: Digi-Key; Supplier Part Number 1: 311-100HRCT-ND; Supplier 2: Digi-Key; Supplier Part Number 2: P100HTR-ND; Manufacturer 2: Panasonic - ECG; Manufacturer Part Number 2: ERJ-3EKF1000V; ComponentLink1URL: http://industrial.panasonic.com/www-cgi/jvcr13pz.cgi?E+PZ+3+AOA0002+ERJ3EKF1000V+7+WW; ComponentLink1Description: http://industrial.panasonic.com/www-cgi/jvcr13pz.cgi?E+PZ+3+AOA0002+ERJ3EKF1000V+7+WW
footprint RESC1608X55N (Chip Resistor, Body 1.6x0.8mm, 0603, IPC Medium Density)
pins: 1, 2

## RES_100R_0805_1%
designator R?, comment value 100R  Tolerance: ±1%  (hidden comment: Thick Film)
Resistor SMD chip 100 Ohm 0.125W 1% 0805; Manufacturer 1: Yageo; Manufacturer Part Number 1: RC0805FR-07100RL; Ratings: 1/8 W; SCDType: spec; Package / Case: 0805 (2012 Metric); Material: Thick Film; Supplier 1: Digi-Key; Supplier Part Number 1: 311-100CRCT-ND
footprint RESC2012X70N (Chip Resistor, Body 2.0x1.2mm, 0805, IPC Medium Density)
pins: 1, 2

## RES_100R_1206_5%
designator R?, comment value 100R  (hidden comment: Thick Film)
Resistor SMD chip 100 Ohm 0.25W 5% 1206; Manufacturer 1: Vishay/Dale; Manufacturer Part Number 1: CRCW1206100RJNEA; SCDType: spec; Package / Case: 1206 (3216 metric); Ratings: 0.25 W; Tolerance: ±5%; Material: Thick Film; Supplier 1: Digi-Key; Supplier Part Number 1: 541-100ECT-ND
footprint RESC3216X70N (Chip Resistor, Body 3.2x1.6mm, 1206, IPC Medium Density)
pins: 1, 2

## RES_110K_0402_1%
designator R?, comment value 110K  Tolerance: ±1%  (hidden comment: Thick Film)
Resistor SMD chip 110k Ohm 0.063W 1% 0402; Manufacturer 1: Vishay Dale; Manufacturer Part Number 1: CRCW0402110KFKED; Ratings: 1/16 W; SCDType: spec; Package / Case: 0402 (1005 Metric); Manufacturer 2: Yageo; Manufacturer Part Number 2: RC0402FR-07110KL; Supplier 1: Digi-Key; Supplier Part Number 1: 541-110KLCT-ND; ComponentLink1URL: http://www.vishay.com/doc?20035; ComponentLink1Description: http://www.vishay.com/doc?20035; ComponentLink2URL: http://www.yageo.com/documents/recent/PYu-RC0402_51_RoHS_L_6.pdf; ComponentLink2Description: http://www.yageo.com/documents/recent/PYu-RC0402_51_RoHS_L_6.pdf; Supplier 2: Digi-Key; Supplier Part Number 2: 311-110KJRCT-ND
footprint RESC1005X40N (Chip Resistor, Body 1.0x0.5mm, EIA 0402, IPC Medium Density)
pins: 1, 2

## RES_110K_0603_1%
designator R?, comment value 110K  Tolerance: ±1%  (hidden comment: Thick Film)
Resistor SMD chip 110K Ohm 0.1W 1% 0603; Manufacturer 1: Yageo; Manufacturer Part Number 1: RC0603FR-07110KL; Ratings: 1/10W; SCDType: undef; Package / Case: 0603 (1608 Metric); Supplier 1: Digi-Key; Supplier Part Number 1: 311-110KHRCT-ND
footprint RESC1608X55N (Chip Resistor, Body 1.6x0.8mm, 0603, IPC Medium Density)
pins: 1, 2

## RES_120R_0603_5%
designator R?, comment value 120R  (hidden comment: Thick Film)
Resistor SMD chip 120 Ohm 0.1W 5% 0603; Manufacturer 1: Vishay Dale; Manufacturer Part Number 1: CRCW0603120RJNEA; Ratings: 1/10 W; SCDType: spec; Package / Case: 0603 (1608 metric); Tolerance: ±5%; Material: Thick Film; Supplier 1: Digi-Key; Supplier Part Number 1: 541-120GCT-ND; ComponentLink1URL: http://www.vishay.com/doc?20035; ComponentLink1Description: http://www.vishay.com/doc?20035; Supplier 2: Digi-Key; Supplier Part Number 2: 311-120GRCT-ND; Manufacturer 2: Yageo; Manufacturer Part Number 2: RC0603JR-07120RL; ComponentLink2URL: http://www.yageo.com/documents/recent/PYu-RC0603_51_RoHS_L_4.pdf; ComponentLink2Description: http://www.yageo.com/documents/recent/PYu-RC0603_51_RoHS_L_4.pdf
footprint RESC1608X55N (Chip Resistor, Body 1.6x0.8mm, 0603, IPC Medium Density)
pins: 1, 2

## RES_143R_0603_1%
designator R?, comment value 143R  Tolerance: ±1%  (hidden comment: Thin Film)
Resistor SMD chip 143 Ohm 0.1W 1% 0603; Manufacturer 1: Yageo; Manufacturer Part Number 1: RC0603FR-07143RL; Ratings: 1/10 W; SCDType: spec; Package / Case: 0603 (1608 metric); Material: Thin Film; Supplier 1: Digi-Key; Supplier Part Number 1: 311-143HRCT-ND
footprint RESC1608X55N (Chip Resistor, Body 1.6x0.8mm, 0603, IPC Medium Density)
pins: 1, 2

## RES_150R_0805_5%
designator R?, comment value 150R  (hidden comment: Thick Film)
Resistor SMD chip 150 Ohm 0.125W 5% 0805; Manufacturer 1: Vishay/Dale; Manufacturer Part Number 1: CRCW0805150RJNEA; Ratings: 1/8W; SCDType: spec; Tolerance: ±5%; Package / Case: 0805 (2012 metric); Supplier 1: Digi-Key; Supplier Part Number 1: 541-150ACT-ND
footprint RESC2012X70N (Chip Resistor, Body 2.0x1.2mm, 0805, IPC Medium Density)
pins: 1, 2

## RES_150R_1206_5%
designator R?, comment value 150R  (hidden comment: Thin Film)
Resistor SMD chip 150 Ohm 0.25W 5% 1206; Manufacturer 1: Yageo; Manufacturer Part Number 1: RC1206JR-07150RL; Ratings: 1/4 W; SCDType: spec; Package / Case: 1206 (3216 Metric); Tolerance: ±5%; Material: Thin Film; Supplier 1: Digi-Key; Supplier Part Number 1: 311-150ERCT-ND; ComponentLink1URL: http://www.yageo.com/documents/recent/PYu-RC1206_51_RoHS_L_4.pdf; ComponentLink1Description: http://www.yageo.com/documents/recent/PYu-RC1206_51_RoHS_L_4.pdf
footprint RESC3216X70N (Chip Resistor, Body 3.2x1.6mm, 1206, IPC Medium Density)
pins: 1, 2

## RES_160K_0805_1%
designator R?, comment value 160K  Tolerance: ±1%  (hidden comment: Thick Film)
Resistor SMD chip 160k Ohm 0.125W 1% 0805; Manufacturer 1: Vishay/Dale; Manufacturer Part Number 1: CRCW0805160KFKEA; Ratings: 1/8W; SCDType: spec; Package / Case: 0805 (2012 metric); Supplier 1: Digi-Key; Supplier Part Number 1: 541-160KCCT-ND
footprint RESC2012X70N (Chip Resistor, Body 2.0x1.2mm, 0805, IPC Medium Density)
pins: 1, 2

## RES_180R_0603_5%
designator R?, comment value 180R  (hidden comment: Thick Film)
Resistor SMD chip 180 Ohm 0.1W 5% 0603; Manufacturer 1: Vishay Dale; Manufacturer Part Number 1: CRCW0603180RJNEA; Ratings: 1/10 W; SCDType: spec; Package / Case: 0603 (1608 metric); Tolerance: ±5%; Material: Thick Film; Supplier 1: Digi-Key; Supplier Part Number 1: 541-180GCT-ND; ComponentLink1URL: http://www.vishay.com/doc?20035; ComponentLink1Description: http://www.vishay.com/doc?20035; Supplier 2: Digi-Key; Supplier Part Number 2: 311-180GRCT-ND; ComponentLink2URL: http://www.yageo.com/documents/recent/PYu-RC0603_51_RoHS_L_4.pdf; ComponentLink2Description: http://www.yageo.com/documents/recent/PYu-RC0603_51_RoHS_L_4.pdf; Manufacturer 2: Yageo; Manufacturer Part Number 2: RC0603JR-07180RL
footprint RESC1608X55N (Chip Resistor, Body 1.6x0.8mm, 0603, IPC Medium Density)
pins: 1, 2

## RES_200R_0603_5%
designator R?, comment value 200R  (hidden comment: Thick Film)
Resistor SMD chip 200 Ohm 0.1W 5% 0603; Manufacturer 1: Yageo; Manufacturer Part Number 1: RC0603JR-07200RL; Ratings: 1/10 W; SCDType: undef; Package / Case: 0603 (1608 metric); Tolerance: ±5%; Material: Thick Film; Supplier 1: Digi-Key; Supplier Part Number 1: 311-200GRCT-ND
footprint RESC1608X55N (Chip Resistor, Body 1.6x0.8mm, 0603, IPC Medium Density)
pins: 1, 2

## RES_200R_0805_1%
designator R?, comment value 200R  Tolerance: ±1%  (hidden comment: Thick Film)
Resistor SMD chip 200 Ohm 0.125W 1% 0805; Manufacturer 1: Vishay/Dale; Manufacturer Part Number 1: CRCW0805200RFKEA; Ratings: 1/8W; SCDType: spec; Package / Case: 0805 (2012 metric); Supplier 1: Digi-Key; Supplier Part Number 1: 541-200CCT-ND
footprint RESC2012X70N (Chip Resistor, Body 2.0x1.2mm, 0805, IPC Medium Density)
pins: 1, 2

## RES_205K_0805_1%
designator R?, comment value 205K  Tolerance: ±1%  (hidden comment: Thick Film)
Resistor SMD chip 205k Ohm 0.125W 1% 0805; Manufacturer 1: Vishay/Dale; Manufacturer Part Number 1: CRCW0805205KFKEA; Ratings: 1/8W; SCDType: spec; Package / Case: 0805 (2012 metric); Supplier 1: Digi-Key; Supplier Part Number 1: 541-205KCCT-ND
footprint RESC2012X70N (Chip Resistor, Body 2.0x1.2mm, 0805, IPC Medium Density)
pins: 1, 2

## RES_220K_0805_1%
designator R?, comment value 220K  Tolerance: ±1%  Supplier Part Number 1: 311-220KCRCT-ND  (hidden comment: Thick Film)
Resistor SMD chip 220k Ohm 0.125W 1% 0805; Ratings: 1/8W; SCDType: spec; Package / Case: 0805 (2012 metric); Supplier 1: Digi-Key
footprint RESC2012X70N (Chip Resistor, Body 2.0x1.2mm, 0805, IPC Medium Density)
pins: 1, 2

## RES_220R_0603_5%
designator R?, comment value 220R  (hidden comment: Thick Film)
Resistor SMD chip 220 Ohm 0.1W 5% 0603; Manufacturer 1: Yageo; Manufacturer Part Number 1: RC0603JR-07220RL; Ratings: 1/10 W; SCDType: spec; Manufacturer 5: Royal Ohm; Manufacturer Part Number 5: 0603WAJ0221; Package / Case: 0603 (1608 metric); Tolerance: ±5%; Material: Thick Film; Supplier 1: Digi-Key; Supplier Part Number 1: 311-220GRCT-ND; Supplier 2: Digi-Key; Supplier Part Number 2: P220GCT-ND; Manufacturer 2: Panasonic Electronic Components; Manufacturer Part Number 2: ERJ-3GEYJ221V; RoHS 2: RoHS Compliant; ComponentLink2URL: http://industrial.panasonic.com/www-cgi/jvcr13pz.cgi?E+PZ+3+AOA0001+ERJ3GEYJ221V+7+WW; ComponentLink2Description: http://industrial.panasonic.com/www-cgi/jvcr13pz.cgi?E+PZ+3+AOA0001+ERJ3GEYJ221V+7+WW; ComponentLink1URL: http://www.yageo.com/documents/recent/PYu-RC0603_51_RoHS_L_4.pdf; ComponentLink1Description: http://www.yageo.com/documents/recent/PYu-RC0603_51_RoHS_L_4.pdf; Supplier 3: Digi-Key; Supplier Part Number 3: RMCF0603JT220RCT-ND; Manufacturer 3: Stackpole Electronics Inc; Manufacturer Part Number 3: RMCF0603JT220R; RoHS 3: RoHS Compliant; ComponentLink3URL: http://www.seielect.com/Catalog/SEI-RMCF_RMCP.pdf; ComponentLink3Description: http://www.seielect.com/Catalog/SEI-RMCF_RMCP.pdf; Supplier 4: Digi-Key; Supplier Part Number 4: RHM220CGCT-ND; Manufacturer 4: Rohm Semiconductor; Manufacturer Part Number 4: MCR03ERTJ221; RoHS 4: RoHS Compliant; ComponentLink4URL: http://rohmfs.rohm.com/en/products/databook/datasheet/passive/resistor/chip_resistor/mcr_g.pdf; ComponentLink4Description: http://rohmfs.rohm.com/en/products/databook/datasheet/passive/resistor/chip_resistor/mcr_g.pdf; RoHS 1: RoHS Compliant
footprint RESC1608X55N (Chip Resistor, Body 1.6x0.8mm, 0603, IPC Medium Density)
pins: 1, 2

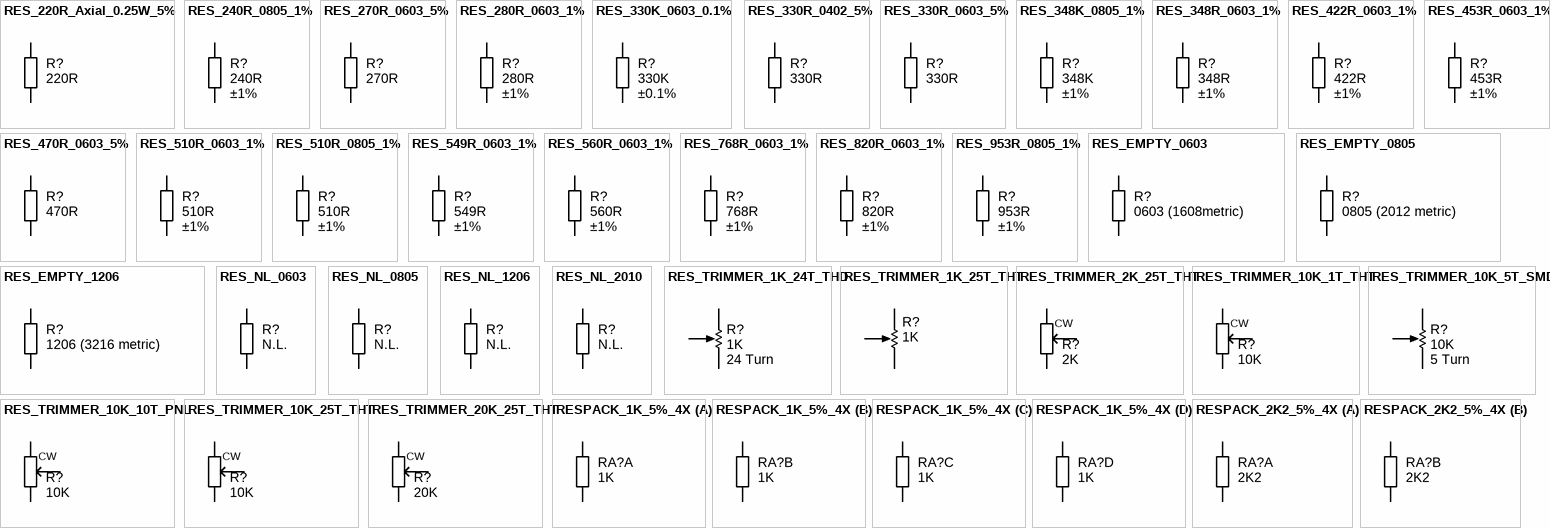
[diagram p3: symbols RES_220R_Axial_0.25W_5% to RESPACK_2K2_5%_4X]

## RES_220R_Axial_0.25W_5%
designator R?, comment value 220R  (hidden comment: Carbon Film)
Resistor THD Axial 220 Ohm 0.25W 5% Carbon Film; Manufacturer 1: Yageo; Manufacturer Part Number 1: CFR-25JB-220R; Ratings: 1/4W; SCDType: spec; Tolerance: ±5%; Package / Case: Axial; Supplier 1: Digi-Key; Supplier Part Number 1: 220QBK-ND
footprint RESTH_AXIAL-0.4
pins: 1, 2

## RES_240R_0805_1%
designator R?, comment value 240R  Tolerance: ±1%  (hidden comment: Thick Film)
Resistor SMD chip 240 Ohm 0.125W 1% 0805; Manufacturer 1: Vishay/Dale; Manufacturer Part Number 1: CRCW0805240RFKEA; Ratings: 1/8W; SCDType: spec; Supplier 1: Digi-Key; Supplier Part Number 1: 541-240CCT-ND; Package / Case: 0805 (2012 metric); Material: Thick Film
footprint RESC2012X70N (Chip Resistor, Body 2.0x1.2mm, 0805, IPC Medium Density)
pins: 1, 2

## RES_270R_0603_5%
designator R?, comment value 270R  (hidden comment: Thick Film)
Resistor SMD chip 270 Ohm 0.1W 5% 0603; Manufacturer 1: Yageo; Manufacturer Part Number 1: RC0603JR-07270RL; Ratings: 1/10 W; SCDType: undef; Package / Case: 0603 (1608 metric); Tolerance: ±5%; Material: Thick Film; Supplier 1: Digi-Key; Supplier Part Number 1: 311-270GRCT-ND
footprint RESC1608X55N (Chip Resistor, Body 1.6x0.8mm, 0603, IPC Medium Density)
pins: 1, 2

## RES_280R_0603_1%
designator R?, comment Tolerance: ±1%  (hidden comment: 280R)
Resistor SMD chip 280 Ohm 0.1W 1% 0603; Manufacturer 1: Yageo; Manufacturer Part Number 1: RC0603FR-07280RL; Ratings: 1/10W; SCDType: spec; Package / Case: 0603 (1608 Metric); Supplier 1: Digi-Key; Supplier Part Number 1: 311-280HRCT-ND; Value: 280R
footprint RESC1608X55N (Chip Resistor, Body 1.6x0.8mm, 0603, IPC Medium Density)
pins: 1, 2

## RES_330K_0603_0.1%
designator R?, comment value 330K  Tolerance: ±0.1%  (hidden comment: Thin Film)
Resistor SMD chip 330k Ohm 0.1W 0.1% 0603; Manufacturer 1: Panasonic - ECG; Manufacturer Part Number 1: ERA-3AEB334V; Ratings: 1/10 W; SCDType: undef; Package / Case: 0603 (1608 metric); Material: Thin Film; Supplier 1: Digi-Key; Supplier Part Number 1: P330KDBCT-ND
footprint RESC1608X55N (Chip Resistor, Body 1.6x0.8mm, 0603, IPC Medium Density)
pins: 1, 2

## RES_330R_0402_5%
designator R?, comment value 330R  (hidden comment: Thick Film)
Resistor SMD chip 330 Ohm 0.063W 5% 0402; Manufacturer 1: Yageo; Manufacturer Part Number 1: RC0402JR-07330RL; Ratings: 1/16 W; SCDType: spec; Package / Case: 0402 (1005 Metric); Tolerance: ±5%; Supplier 1: Digi-Key; Supplier Part Number 1: 311-330JRCT-ND; ComponentLink1URL: http://www.yageo.com/documents/recent/PYu-RC0402_51_RoHS_L_6.pdf; ComponentLink1Description: http://www.yageo.com/documents/recent/PYu-RC0402_51_RoHS_L_6.pdf
footprint RESC1005X40N (Chip Resistor, Body 1.0x0.5mm, EIA 0402, IPC Medium Density)
pins: 1, 2

## RES_330R_0603_5%
designator R?, comment value 330R  (hidden comment: Thick Film)
Resistor SMD chip 330 Ohm 0.1W 5% 0603; Manufacturer 1: Vishay Dale; Manufacturer Part Number 1: CRCW0603330RJNEA; Ratings: 1/10 W; SCDType: spec; Manufacturer 2: Yageo; Manufacturer Part Number 2: RC0603JR-07330RL; Package / Case: 0603 (1608 metric); Tolerance: ±5%; Material: Thick Film; Supplier 1: Digi-Key; Supplier Part Number 1: 541-330GCT-ND; ComponentLink1URL: http://www.vishay.com/doc?20035; ComponentLink1Description: http://www.vishay.com/doc?20035; Supplier 2: Digi-Key; Supplier Part Number 2: 311-330GRCT-ND; ComponentLink2URL: http://www.yageo.com/documents/recent/PYu-RC0603_51_RoHS_L_4.pdf; ComponentLink2Description: http://www.yageo.com/documents/recent/PYu-RC0603_51_RoHS_L_4.pdf
footprint RESC1608X55N (Chip Resistor, Body 1.6x0.8mm, 0603, IPC Medium Density)
pins: 1, 2

## RES_348K_0805_1%
designator R?, comment value 348K  Tolerance: ±1%  (hidden comment: Thick Film)
Resistor SMD chip 348k Ohm 0.125W 1% 0805; Manufacturer 1: Vishay/Dale; Manufacturer Part Number 1: CRCW0805348KFKEA; Ratings: 1/8W; SCDType: spec; Package / Case: 0805 (2012 metric); Supplier 1: Digi-Key; Supplier Part Number 1: 541-348KCCT-ND
footprint RESC2012X70N (Chip Resistor, Body 2.0x1.2mm, 0805, IPC Medium Density)
pins: 1, 2

## RES_348R_0603_1%
designator R?, comment value 348R  Tolerance: ±1%  (hidden comment: Thin Film)
Resistor SMD chip 348 Ohm 0.1W 1% 0603; Manufacturer 1: Yageo; Manufacturer Part Number 1: RC0603FR-07348RL; Ratings: 1/10 W; SCDType: spec; Package / Case: 0603 (1608 metric); Material: Thin Film; Supplier 1: Digi-Key; Supplier Part Number 1: 311-348HRCT-ND
footprint RESC1608X55N (Chip Resistor, Body 1.6x0.8mm, 0603, IPC Medium Density)
pins: 1, 2

## RES_422R_0603_1%
designator R?, comment value 422R  Tolerance: ±1%  (hidden comment: Thick Film)
Resistor SMD chip 422 Ohm 0.1W 1% 0603; Manufacturer 1: Yageo; Manufacturer Part Number 1: RC0603FR-07422RL; Ratings: 1/10W; SCDType: spec; Package / Case: 0603 (1608 Metric); Supplier 1: Digi-Key; Supplier Part Number 1: 311-422HRCT-ND
footprint RESC1608X55N (Chip Resistor, Body 1.6x0.8mm, 0603, IPC Medium Density)
pins: 1, 2

## RES_453R_0603_1%
designator R?, comment value 453R  Tolerance: ±1%  (hidden comment: Thin Film)
Resistor SMD chip 453 Ohm 0.1W 1% 0603; Manufacturer 1: Yageo; Manufacturer Part Number 1: RC0603FR-07453RL; Ratings: 1/10 W; SCDType: spec; Package / Case: 0603 (1608 metric); Material: Thin Film; Supplier 1: Digi-Key; Supplier Part Number 1: 311-453HRCT-ND
footprint RESC1608X55N (Chip Resistor, Body 1.6x0.8mm, 0603, IPC Medium Density)
pins: 1, 2

## RES_470R_0603_5%
designator R?, comment value 470R  (hidden comment: Thick Film)
Resistor SMD chip 470 Ohm 0.1W 5% 0603; Manufacturer 1: Vishay/Dale; Manufacturer Part Number 1: CRCW0603470RJNEA; Ratings: 1/10 W; SCDType: spec; Package / Case: 0603 (1608 metric); Tolerance: ±5%; Material: Thick Film; Supplier 1: Digi-Key; Supplier Part Number 1: 541-470GCT-ND
footprint RESC1608X55N (Chip Resistor, Body 1.6x0.8mm, 0603, IPC Medium Density)
pins: 1, 2

## RES_510R_0603_1%
designator R?, comment value 510R  Tolerance: ±1%  (hidden comment: Thick Film)
Resistor SMD chip 510 Ohm 0.1W 1% 0603; Manufacturer 1: Yageo; Manufacturer Part Number 1: RC0603FR-07510RL; Ratings: 1/10 W; SCDType: spec; Package / Case: 0603 (1608 Metric); Material: Thick Film; Supplier 1: Digi-Key; Supplier Part Number 1: 311-510HRCT-ND
footprint RESC1608X55N (Chip Resistor, Body 1.6x0.8mm, 0603, IPC Medium Density)
pins: 1, 2

## RES_510R_0805_1%
designator R?, comment value 510R  Tolerance: ±1%  (hidden comment: Thick Film)
Resistor SMD chip 510 Ohm 0.125W 1% 0805; Manufacturer 1: Yageo; Manufacturer Part Number 1: RC0805FR-07510RL; Ratings: 1/8 W; SCDType: spec; Package / Case: 0805 (2012 Metric); Material: Thick Film; Supplier 1: Digi-Key; Supplier Part Number 1: 311-510CRCT-ND
footprint RESC2012X70N (Chip Resistor, Body 2.0x1.2mm, 0805, IPC Medium Density)
pins: 1, 2

## RES_549R_0603_1%
designator R?, comment value 549R  Tolerance: ±1%  (hidden comment: Thick Film)
Resistor SMD chip 549 Ohm 0.1W 1% 0603; Manufacturer 1: Yageo; Manufacturer Part Number 1: RC0603FR-07549RL; Ratings: 1/10W; SCDType: undef; Package / Case: 0603 (1608 Metric); Supplier 1: Digi-Key; Supplier Part Number 1: 311-549HRCT-ND
footprint RESC1608X55N (Chip Resistor, Body 1.6x0.8mm, 0603, IPC Medium Density)
pins: 1, 2

## RES_560R_0603_1%
designator R?, comment Tolerance: ±1%  (hidden comment: 560R)
Resistor SMD chip 560 Ohm 0.1W 1% 0603; Manufacturer 1: Yageo; Manufacturer Part Number 1: RC0603FR-07560RL; Ratings: 1/10W; SCDType: spec; Package / Case: 0603 (1608 Metric); Supplier 1: Digi-Key; Supplier Part Number 1: 311-560HRCT-ND; Value: 560R
footprint RESC1608X55N (Chip Resistor, Body 1.6x0.8mm, 0603, IPC Medium Density)
pins: 1, 2

## RES_768R_0603_1%
designator R?, comment value 768R  Tolerance: ±1%  (hidden comment: Thick Film)
Resistor SMD chip 768 Ohm 0.1W 1% 0603; Manufacturer 1: Yageo; Manufacturer Part Number 1: RC0603FR-07768RL; Ratings: 1/10W; SCDType: spec; Package / Case: 0603 (1608 Metric); Supplier 1: Digi-Key; Supplier Part Number 1: 311-768HRCT-ND
footprint RESC1608X55N (Chip Resistor, Body 1.6x0.8mm, 0603, IPC Medium Density)
pins: 1, 2

## RES_820R_0603_1%
designator R?, comment value 820R  Tolerance: ±1%  (hidden comment: Thick Film)
Resistor SMD chip 820 Ohm 0.1W 1% 0603; Manufacturer Part Number 1: RC0603FR-07820RL; Manufacturer 1: Yageo; Ratings: 1/10W; SCDType: undef; Package / Case: 0603 (1608 Metric); Supplier 1: Digi-Key; Supplier Part Number 1: 311-820HRCT-ND
footprint RESC1608X55N (Chip Resistor, Body 1.6x0.8mm, 0603, IPC Medium Density)
pins: 1, 2

## RES_953R_0805_1%
designator R?, comment value 953R  Tolerance: ±1%  (hidden comment: Thick Film)
Resistor SMD chip 953 Ohm 0.125W 1% 0805; Manufacturer 1: Vishay/Dale; Manufacturer Part Number 1: CRCW0805953RFKEA; Ratings: 1/8W; SCDType: spec; Package / Case: 0805 (2012 metric); Supplier 1: Digi-Key; Supplier Part Number 1: 541-953CCT-ND
footprint RESC2012X70N (Chip Resistor, Body 2.0x1.2mm, 0805, IPC Medium Density)
pins: 1, 2

## RES_EMPTY_0603
designator R?  Package / Case: 0603 (1608metric)  (hidden comment: *)
Resistor, 08603 SMD, Empty footprint; Value: N/A
footprint RESC1608X55N (Chip Resistor, Body 1.6x0.8mm, 0603, IPC Medium Density)
pins: 1, 2

## RES_EMPTY_0805
designator R?  Package / Case: 0805 (2012 metric)  (hidden comment: *)
Resistor, 0805 SMD, Empty footprint; Value: N/A
footprint RESC2012X70N (Chip Resistor, Body 2.0x1.2mm, 0805, IPC Medium Density)
pins: 1, 2

## RES_EMPTY_1206
designator R?  Package / Case: 1206 (3216 metric)  (hidden comment: *)
Resistor, 1206 SMD, Empty footprint; Value: N/A
footprint RESC3216X70N (Chip Resistor, Body 3.2x1.6mm, 1206, IPC Medium Density)
pins: 1, 2

## RES_NL_0603
designator R?  value N.L.  (hidden comment: *)  (no BOM)
Resistor, SMD chip; Package / Case: 0603 (1608 metric)
footprint RESC1608X55N (Chip Resistor, Body 1.6x0.8mm, 0603, IPC Medium Density)
pins: 1, 2

## RES_NL_0805
designator R?  value N.L.  (hidden comment: *)  (no BOM)
Resistor, SMD chip; Package / Case: 0805 (2012 metric)
footprint RESC2012X70N (Chip Resistor, Body 2.0x1.2mm, 0805, IPC Medium Density)
pins: 1, 2

## RES_NL_1206
designator R?  value N.L.  (hidden comment: *)  (no BOM)
Resistor, SMD chip; Package / Case: 1206 (3216 metric)
footprint RESC3216X70N (Chip Resistor, Body 3.2x1.6mm, 1206, IPC Medium Density)
pins: 1, 2

## RES_NL_2010
designator R?  value N.L.  (hidden comment: *)  (no BOM)
Resistor, SMD chip; Package / Case: 2010 (5025 metric)
footprint RESC5025X70N (Chip Resistor, Body 5.0x2.5mm, 2010, IPC Medium Density)
pins: 1, 2

## RES_TRIMMER_1K_24T_THD
designator R?, comment 24 Turn  value 1K
Trimmer, 24-Turn, 1K; Manufacturer 1: VISHAY SPECTROL; Manufacturer Part Number 1: 64Y-102; Tolerance: 10%; Ratings: 24 turn variable cermet; SCDType: spec; Supplier 1: Newark; Supplier Part Number 1: 99K0122
footprint VishaySpectrol_64Y (VISHAY SPECTROL - 64Y - TRIMMER)
pins: 1 CCW, 2 TAP, 3 CW

## RES_TRIMMER_1K_25T_THT
designator R?, comment value 1K  (hidden comment: 25 Turn)
Trimmer, 25-Turn, 1K cermet; Manufacturer 1: Murata Electronics North America; Manufacturer Part Number 1: PV36Y102C01B00; Tolerance: 10%; Ratings: 25 turn variable cermet; SCDType: spec; Supplier 1: Digi-Key; Supplier Part Number 1: 490-2912-ND
footprint TrimPot_THT_2.54mm pitch (TRIMMER, MURATA, PV36Y)
pins: 1 CCW, 2 TAP, 3 CW

## RES_TRIMMER_2K_25T_THT
designator R?, comment value 2K  (hidden comment: 25 turns)
Trimmer THD 2K 500mW 25-turn; Manufacturer 1: Murata Electronics North America; Manufacturer Part Number 1: PV36X202C01B00; Tolerance: ±10%; Ratings: 1/2W; ±100ppm/°C; SCDType: spec; Material: Cermet; Package / Case: 10.9mm L x 5.0mm W x 10.0mm H; Supplier 1: Digi-Key; Supplier Part Number 1: 490-2899-ND
footprint TrimPot_THT_PV36X (TRIMMER, MURATA, PV36X)
pins: CCW 1, CW 3, W 2

## RES_TRIMMER_10K_1T_THT
designator R?, comment value 10K  (hidden comment: Single-turn pot)
Trimmer THD 10K 200mW Single-turn; Manufacturer 1: Bourns Inc.; Manufacturer Part Number 1: 3306F-1-103; Tolerance: ±25%; Ratings: 1/5W; SCDType: spec; Supplier 1: Digi-Key; Supplier Part Number 1: 3306F-103-ND; Material: Cermet; Package / Case: 8.10mm L x 6.81mm W x 7.62mm H
footprint POT_3306F
pins: CCW 1, CW 3, W 2